# EAGLE library part SN65HVD71 (library texas)
RS-485 DRIVER 3.3V, Full-Duplex RS-485, 12kV IEC ESD, 50Mbps
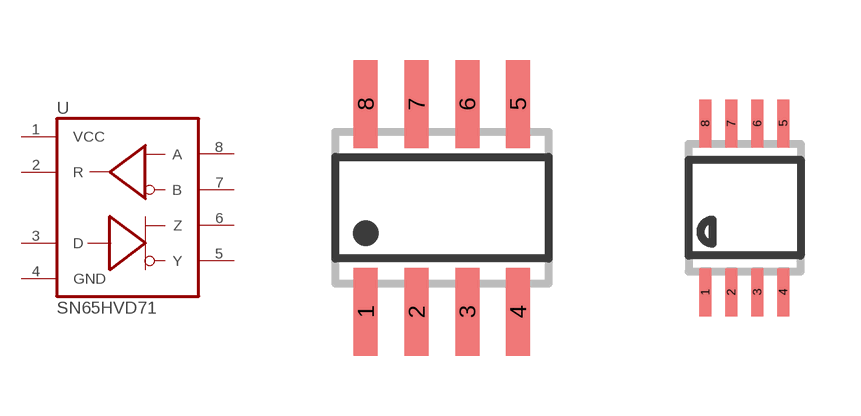
[diagram p96: symbol with the pads of SO08; footprints SO08, MSOP08]

Designator prefix U

## SN65HVD71D  [SO08]
1  VCC  pwr
2  R  out
3  D  in
4  GND  pwr
5  Y
6  Z
7  B
8  A

## SN65HVD71DGK  [MSOP08]
Pads as for SO08

## Footprint SO08 (pad centres in mm)
SMALL OUTLINE INTEGRATED CIRCUIT body 3.9 mm/JEDEC MS-012AA
smd 0.6 x 2.2: 1 -1.905,-2.6; 2 -0.635,-2.6; 3 0.635,-2.6; 4 1.905,-2.6; 5 1.905,2.6; 6 0.635,2.6; 7 -0.635,2.6; 8 -1.905,2.6

## Footprint MSOP08 (pad centres in mm)
Mini Small Outline Package
smd 0.3 x 1.2: 1 -0.976,-2.113; 2 -0.326,-2.113; 3 0.324,-2.113; 4 0.974,-2.113; 5 0.974,2.112; 6 0.324,2.112; 7 -0.326,2.112; 8 -0.976,2.112